# EAGLE library part MMA7660FC (library accelerometer)
3-Axis Orientation/Motion Detection Sensor Features Digital Output (I2C) 3mm x 3mm x 0.9mm DFN Package Low Power Current Consumption: Off Mode: 0.4 ?A, Standby Mode: 2 ?A, Active Mode: 47 ?A at 1 ODR Configurable Samples per Second from 1 to 120 samples a second. Low Voltage Operation: ? Analog Voltage: 2.4 V - 3.6 V ? Digital Voltage: 1.71 V - 3.6 V Auto-Wake/Sleep Feature for Low Power Consumption Tilt Orientation Detection for Portrait/Landscape Capability Gesture Detection Including Shake Detection and Tap
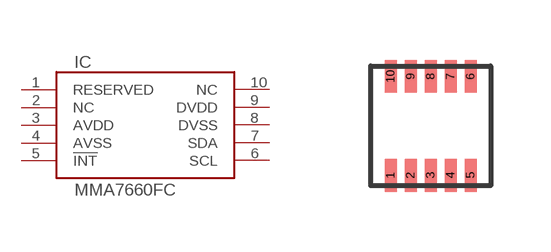
[diagram p0: symbol with the pads of DFN10; footprint DFN10]

Designator prefix IC

## MMA7660FC  [DFN10]
1  RESERVED
2  NC
3  AVDD
4  AVSS
5  !INT
6  SCL
7  SDA
8  DVSS
9  DVDD
10  NC

## MMA7660FC+  [DFN10]
Pads as for DFN10

## Footprint DFN10 (pad centres in mm)
smd 0.3 x 0.825: 1 -1,-1.24; 2 -0.5,-1.24; 3 0,-1.24; 4 0.5,-1.24; 5 1,-1.24; 6 1,1.24; 7 0.5,1.24; 8 0,1.24; 9 -0.5,1.24; 10 -1,1.24